# EAGLE library part LM7705 (library texas-extra)
CHARGE MANAGEMENT IC
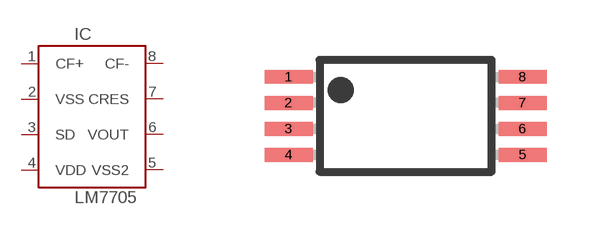
[diagram p0: symbol with the pads of TSSOP8; footprint TSSOP8]

Designator prefix IC

## LM7705 (OC_FARNELL: unknown; OC_NEWARK: unknown)  [TSSOP8]
1  CF+  in
2  VSS  in
3  SD  in
4  VDD  in
5  VSS2  in
6  VOUT  in
7  CRES  in
8  CF-  in

## Footprint TSSOP8 (pad centres in mm)
Plastic Small Outline
smd 1.2 x 0.35: 1 -2.925,0.975; 2 -2.925,0.325; 3 -2.925,-0.325; 4 -2.925,-0.975; 5 2.925,-0.975; 6 2.925,-0.325; 7 2.925,0.325; 8 2.925,0.975